# Altium schematic symbol library Microphones.SchLib: 1 symbol
Pins are listed as number, name and electrical type; pins without a type are passive.

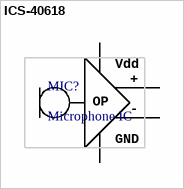
[diagram p0: symbol ICS-40618]

## ICS-40618
designator MIC?, comment Microphone IC
ICS-40618
footprint ICS-40618 (ICS-40618 MEMS microphone)
pins: 1 Out+, 2 Out-, 3 GND, 4 GND, 5 Vcc
text: Vdd; +; OP; -